# EAGLE library part ICM7244 (library 000_nl2)
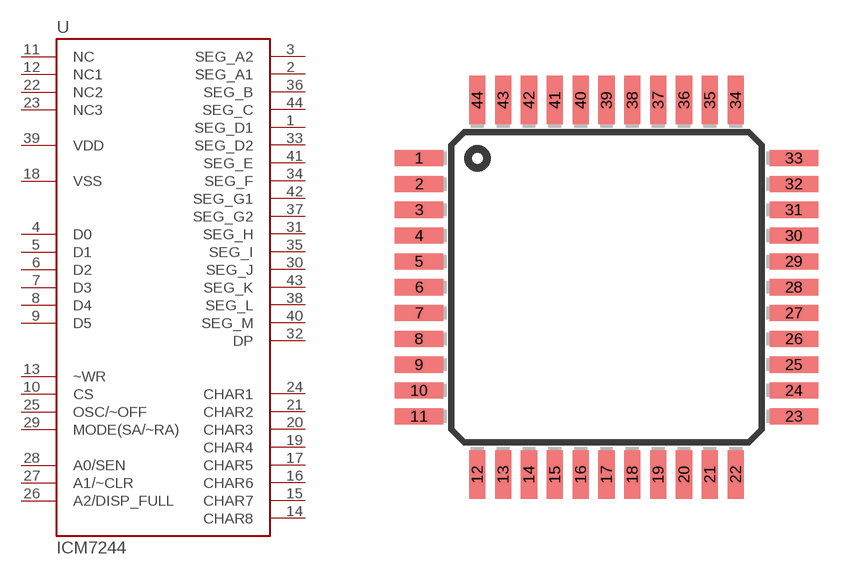
[diagram p10: symbol with the pads of TQFP44; footprint TQFP44]

Designator prefix -

## ICM7244  [TQFP44]
1  SEG_D1
2  SEG_A1
3  SEG_A2
4  D0
5  D1
6  D2
7  D3
8  D4
9  D5
10  CS
11  NC  nc
12  NC1  nc
13  ~WR
14  CHAR8
15  CHAR7
16  CHAR6
17  CHAR5
18  VSS  pwr
19  CHAR4
20  CHAR3
21  CHAR2
22  NC2  nc
23  NC3  nc
24  CHAR1
25  OSC/~OFF
26  A2/DISP_FULL
27  A1/~CLR
28  A0/SEN
29  MODE(SA/~RA)
30  SEG_J
31  SEG_H
32  DP
33  SEG_D2
34  SEG_F
35  SEG_I
36  SEG_B
37  SEG_G2
38  SEG_L
39  VDD  pwr
40  SEG_M
41  SEG_E
42  SEG_G1
43  SEG_K
44  SEG_C

## Footprint TQFP44 (pad centres in mm)
smd 1.5 x 0.5: 1 -5.8,4; 2 -5.8,3.2; 3 -5.8,2.4; 4 -5.8,1.6; 5 -5.8,0.8; 6 -5.8,0; 7 -5.8,-0.8; 8 -5.8,-1.6; 9 -5.8,-2.4; 10 -5.8,-3.2; 11 -5.8,-4; 23 5.8,-4; 24 5.8,-3.2; 25 5.8,-2.4; 26 5.8,-1.6; 27 5.8,-0.8; 28 5.8,0; 29 5.8,0.8; 30 5.8,1.6; 31 5.8,2.4; 32 5.8,3.2; 33 5.8,4
smd 0.5 x 1.5: 12 -4,-5.8; 13 -3.2,-5.8; 14 -2.4,-5.8; 15 -1.6,-5.8; 16 -0.8,-5.8; 17 0,-5.8; 18 0.8,-5.8; 19 1.6,-5.8; 20 2.4,-5.8; 21 3.2,-5.8; 22 4,-5.8; 34 4,5.8; 35 3.2,5.8; 36 2.4,5.8; 37 1.6,5.8; 38 0.8,5.8; 39 0,5.8; 40 -0.8,5.8; 41 -1.6,5.8; 42 -2.4,5.8; 43 -3.2,5.8; 44 -4,5.8